# Altium footprint library Transistor.PcbLib: 2 footprints
Each footprint in its own frame and in the unit in brackets; x right, y up, seen from the top. Pads: shape width x height; smd on the part's side, far side on the other; paste and mask are expansions set on the pad; w line width, h text height; cw(c..) or ccw(c..) is an arc to the next point about the centre after c.
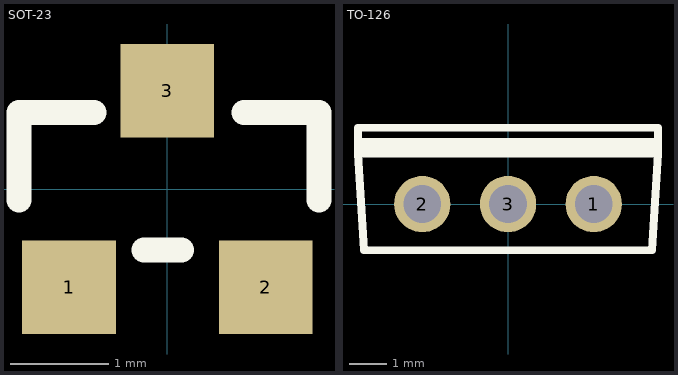
[diagram p0: the footprints below, top view; thin cyan lines are the x and y axes]

## SOT-23 [mm] "SOT 23"
height 1.27
pads (3):
  rect 0.95x0.95 smd: 1(-1,-1) 2(1,-1) 3(0,1)
Top Overlay:
  lines w0.254: -1.508,-0.111 -1.508,0.778 -0.746,0.778 ; -0.238,-0.619 0.143,-0.619 ; 0.778,0.778 1.54,0.778 1.54,-0.111
3D body "User Library-SOT-23-3.STEP": height 1.05, standoff 0.04, extent -1.5,-1.25 1.5,1.25

## TO-126 [mm]
pads (3):
  round 1.5 hole 1: 1(2.28,0) 2(-2.28,0) 3(0,0)
Top Overlay:
  lines w0.203: -3.989,1.337 -3.83,-1.225 3.83,-1.225 3.989,1.337 ; -3.989,1.337 3.989,1.337 ; -3.989,1.337 -3.989,1.469 ; -3.989,1.469 -3.989,1.652 ; -3.989,1.469 3.989,1.469 3.989,1.652 ; -3.989,1.652 -3.989,2.025 3.989,2.025 3.989,1.652 ; -3.989,1.652 3.989,1.652 ; 3.989,1.337 3.989,1.652
3D body "D882-Y--3DModel-STEP-56544.STEP": height 17.19, standoff -10.36, extent -3.989,-1.225 3.989,2.025